# EAGLE library part DAC70502DRXT (library ds_ic_peripherals)
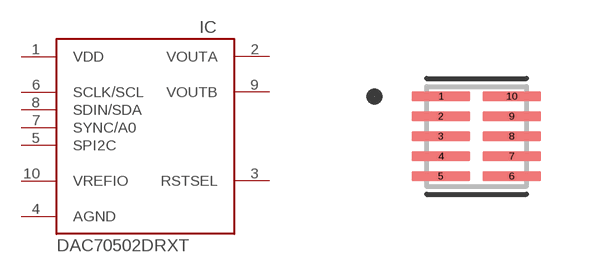
[diagram p72: symbol with the pads of WSON10; footprint WSON10]

Designator prefix IC

## DAC70502DRXT (DATASHEET: https://www.ti.com/lit/ds/symlink/dac70502.pdf; DESCRIPTION: -40℃~+125℃ 14 1LSB 2 2.7V~5.5V 5us I2C WSON-10(2.5x2.5) Digital to Analog Converters (DAC) ROHS; LCSC_PART: DAC70502DRXT; MANUFACTURER: Texas Instruments; MPN: DAC70502DRXT; ROHS: YES; VALUE: DAC70502DRXT)  [WSON10]
1  VDD  pwr
2  VOUTA  out
3  RSTSEL  in
4  AGND  pwr
5  SPI2C  in
6  SCLK/SCL
7  SYNC/A0
8  SDIN/SDA
9  VOUTB  out
10  VREFIO  in

## Footprint WSON10 (pad centres in mm)
smd 1.46 x 0.26: 1 -0.885,1; 2 -0.885,0.5; 3 -0.885,0; 4 -0.885,-0.5; 5 -0.885,-1; 6 0.885,-1; 7 0.885,-0.5; 8 0.885,0; 9 0.885,0.5; 10 0.885,1